# Altium integrated library MF-MSMF050.IntLib: 1 symbol
Pins are listed as number, name and electrical type; pins without a type are passive.

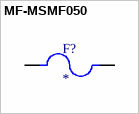
[diagram p0: symbol MF-MSMF050]

## MF-MSMF050
designator F?
Polymeric PTC Resettable Fuse 40V 500 mA Ih Surface Mount 1812 (4532 Metric), Concave; MF: Bourns; MP: MF-MSMF050; Package: 1812 Bourns; Price: None; Value: *; SnapEDA_Link: https://www.snapeda.com/parts/MF-MSMF050/Bourns/view-part/?ref=snap; Availability: Not in stock; Check_prices: https://www.snapeda.com/parts/MF-MSMF050/Bourns/view-part/?ref=eda
footprint FUSER_MF-MSMF050
pins: 1, 2